# EAGLE library part 613010216921 (library Board-to-Board (rev18a))
WR-PHD 2.54mm Dual S. Header Bottom Entry Large, 10 Pins=>Code : Con_BTB_SHD_2.54_2_613010216921 <http://katalog.we-online.de/media/images/eican/Con_BTB_SHD_2.54_2_6130xx216921_pf2.jpg> Details see: http://katalog.we-online.de/en/em/613_0xx_216_921 Created 2014-05-30, Karrer Zheng 2014 (C) Würth Elektronik
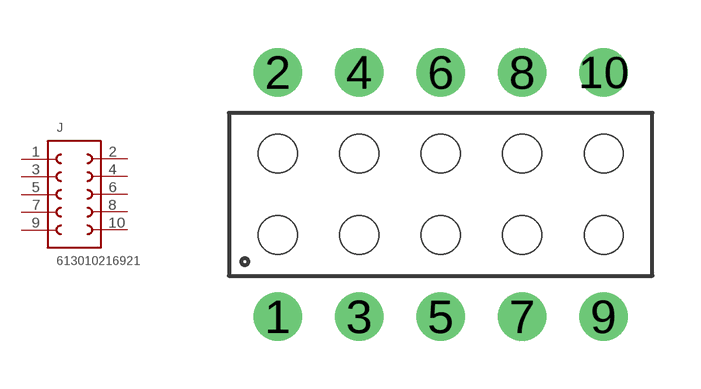
[diagram p166: symbol with the pads of 613010216921; footprint 613010216921]

Designator prefix J

## 613010216921  [613010216921]
1  1  pas
2  10  pas
3  2  pas
4  9  pas
5  3  pas
6  8  pas
7  4  pas
8  7  pas
9  5  pas
10  6  pas

## Footprint 613010216921 (pad centres in mm)
WR-PHD 2.54mm Dual S. Header Bottom Entry Large, 10 Pins
drill 1: 1 -5.08,-3.81; 2 -5.08,3.81; 3 -2.54,-3.81; 4 -2.54,3.81; 5 0,-3.81; 6 0,3.81; 7 2.54,-3.81; 8 2.54,3.81; 9 5.08,-3.81; 10 5.08,3.81
hole 1.2 at -5.08,1.27
hole 1.2 at -2.54,1.27
hole 1.2 at -2.54,-1.27
hole 1.2 at -5.08,-1.27
hole 1.2 at 0,1.27
hole 1.2 at 0,-1.27
hole 1.2 at 2.54,-1.27
hole 1.2 at 2.54,1.27
hole 1.2 at 5.08,1.27
hole 1.2 at 5.08,-1.27